# EAGLE library part MPU-9250 (library Common-Parts-Library-Eagle)
GYRO/ACCEL/COMPASS/9-AXIS
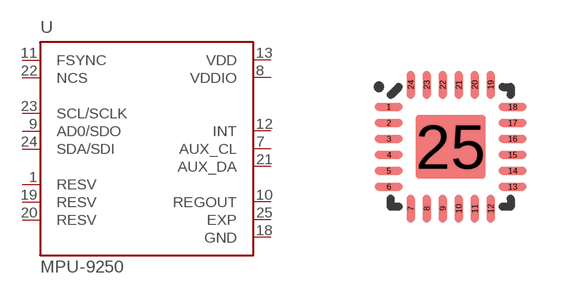
[diagram p57: symbol with the pads of QFN40P300X300X105-25N; footprint QFN40P300X300X105-25N]

Designator prefix U

## MPU-9250 (MANUFACTURER: InvenSense)  [QFN40P300X300X105-25N]
1  RESV  pwr
7  AUX_CL  out
8  VDDIO  pwr
9  AD0/SDO
10  REGOUT  pas
11  FSYNC  in
12  INT  out
13  VDD  pwr
18  GND  pwr
19  RESV  pwr
20  RESV  pwr
21  AUX_DA  out
22  NCS  in
23  SCL/SCLK  in
24  SDA/SDI
25  EXP  pwr

## Footprint QFN40P300X300X105-25N (pad centres in mm)
smd 0.7 x 0.2: 1 -1.55,1; 2 -1.55,0.6; 3 -1.55,0.2; 4 -1.55,-0.2; 5 -1.55,-0.6; 6 -1.55,-1; 13 1.55,-1; 14 1.55,-0.6; 15 1.55,-0.2; 16 1.55,0.2; 17 1.55,0.6; 18 1.55,1
smd 0.2 x 0.7: 7 -1,-1.55; 8 -0.6,-1.55; 9 -0.2,-1.55; 10 0.2,-1.55; 11 0.6,-1.55; 12 1,-1.55; 19 1,1.55; 20 0.6,1.55; 21 0.2,1.55; 22 -0.2,1.55; 23 -0.6,1.55; 24 -1,1.55
smd 1.75 x 1.6: 25 0,0